# Altium footprint library ADP5070ACPZ.PcbLib: 3 footprints
Each footprint in its own frame and in the unit in brackets; x right, y up, seen from the top. Pads: shape width x height; smd on the part's side, far side on the other; paste and mask are expansions set on the pad; w line width, h text height; cw(c..) or ccw(c..) is an arc to the next point about the centre after c.
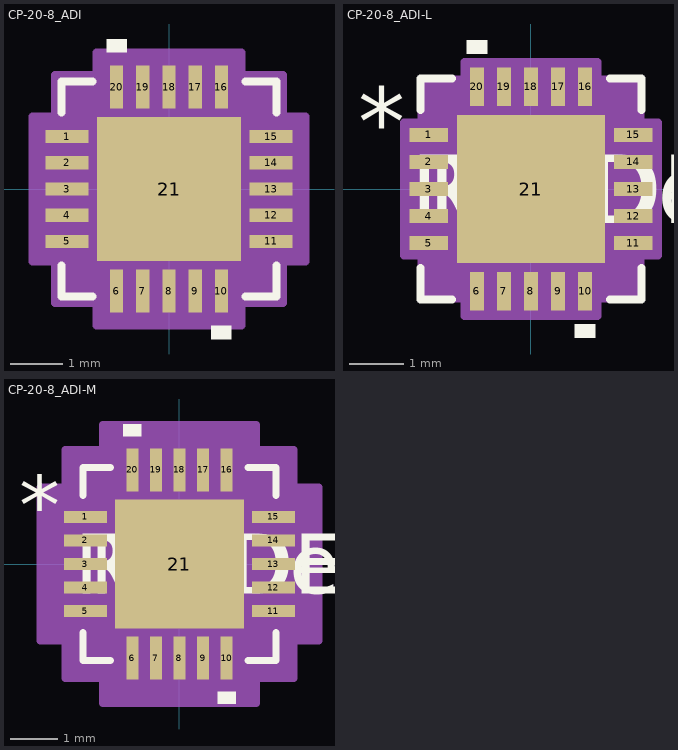
[diagram p0: the footprints below, top view; thin cyan lines are the x and y axes]

## CP-20-8_ADI [mil]
pads (21):
  rect 32x10 smd paste+0 mask+0: 1(-76.5,39.37) 2(-76.5,19.68) 3(-76.5,0) 4(-76.5,-19.68) 5(-76.5,-39.37) 11(76.5,-39.37) 12(76.5,-19.68) 13(76.5,0) 14(76.5,19.68) 15(76.5,39.37)
  rect 10x32 smd paste+0 mask+0: 6(-39.37,-76.5) 7(-19.68,-76.5) 8(0,-76.5) 9(19.68,-76.5) 10(39.37,-76.5) 16(39.37,76.5) 17(19.68,76.5) 18(0,76.5) 19(-19.68,76.5) 20(-39.37,76.5)
  rect 108x108 smd paste-54 mask+0: 21(0,0)
Top Overlay:
  region: -31.87,102.5 -46.87,102.5 -46.87,112.5 -31.87,112.5
  region: 46.87,-102.5 31.87,-102.5 31.87,-112.5 46.87,-112.5
  lines w6: -80.5,-57.47 -80.5,-80.5 -57.47,-80.5 ; -80.5,57.47 -80.5,80.5 -57.47,80.5 ; 57.47,-80.5 80.5,-80.5 80.5,-57.47 ; 57.47,80.5 80.5,80.5 80.5,57.47
Top Paste:
  region: 50.06,-3.94 3.94,-3.94 3.94,-50.06 50.06,-50.06
  region: 50.06,50.06 3.94,50.06 3.94,3.94 50.06,3.94
  region: -3.94,-3.94 -50.06,-3.94 -50.06,-50.06 -3.94,-50.06
  region: -3.94,50.06 -50.06,50.06 -50.06,3.94 -3.94,3.94
Mechanical 13:
  lines w1: -75.5,25.5 -25.5,75.5 ; -80.5,-45.37 -75.5,-45.37 -75.5,-33.37 -80.5,-33.37 -80.5,-45.37 ; -80.5,-25.68 -75.5,-25.68 -75.5,-13.69 -80.5,-13.69 -80.5,-25.68 ; -80.5,-6 -75.5,-6 -75.5,6 -80.5,6 -80.5,-6 ; -80.5,13.69 -75.5,13.69 -75.5,25.68 -80.5,25.68 -80.5,13.69 ; -80.5,33.37 -75.5,33.37 -75.5,45.37 -80.5,45.37 -80.5,33.37 ; -75.5,-75.5 -75.5,75.5 75.5,75.5 75.5,-75.5 -75.5,-75.5 ; -45.37,-80.5 -33.37,-80.5 -33.37,-75.5 -45.37,-75.5 -45.37,-80.5 ; -45.37,75.5 -45.37,80.5 -33.37,80.5 -33.37,75.5 -45.37,75.5 ; -25.68,-80.5 -13.69,-80.5 -13.69,-75.5 -25.68,-75.5 -25.68,-80.5 ; -25.68,75.5 -25.68,80.5 -13.69,80.5 -13.69,75.5 -25.68,75.5 ; -6,-80.5 6,-80.5 6,-75.5 -6,-75.5 -6,-80.5 ; -6,75.5 -6,80.5 6,80.5 6,75.5 -6,75.5 ; 13.69,-80.5 25.68,-80.5 25.68,-75.5 13.69,-75.5 13.69,-80.5 ; 13.69,75.5 13.69,80.5 25.68,80.5 25.68,75.5 13.69,75.5 ; 33.37,-80.5 45.37,-80.5 45.37,-75.5 33.37,-75.5 33.37,-80.5 ; 33.37,75.5 33.37,80.5 45.37,80.5 45.37,75.5 33.37,75.5 ; 75.5,-45.37 80.5,-45.37 80.5,-33.37 75.5,-33.37 75.5,-45.37 ; 75.5,-25.68 80.5,-25.68 80.5,-13.69 75.5,-13.69 75.5,-25.68 ; 75.5,-6 80.5,-6 80.5,6 75.5,6 75.5,-6 ; 75.5,13.69 80.5,13.69 80.5,25.68 75.5,25.68 75.5,13.69 ; 75.5,33.37 80.5,33.37 80.5,45.37 75.5,45.37 75.5,33.37
  text "RefDes2" at -90,-15 h50
  text "*" at -73,24.21 h50
Mechanical 15:
  region: -54.37,-85.5 -85.5,-85.5 -85.5,-54.37 -102.5,-54.37 -102.5,54.37 -85.5,54.37 -85.5,85.5 -54.37,85.5 -54.37,102.5 54.37,102.5 54.37,85.5 85.5,85.5 85.5,54.37 102.5,54.37 102.5,-54.37 85.5,-54.37 85.5,-85.5 54.37,-85.5 54.37,-102.5 -54.37,-102.5
  lines w6: -102.5,-54.37 -102.5,54.37 -85.5,54.37 -85.5,85.5 -54.37,85.5 -54.37,102.5 54.37,102.5 54.37,85.5 85.5,85.5 85.5,54.37 102.5,54.37 102.5,-54.37 85.5,-54.37 85.5,-85.5 54.37,-85.5 54.37,-102.5 -54.37,-102.5 -54.37,-85.5 -85.5,-85.5 -85.5,-54.37 -102.5,-54.37
3D body "CP-20-8_ADI.step": height 32.09, standoff 0, extent -80.51,-80.51 80.51,80.51
3D body "CP-20-8_ADI.step": height 32.09, standoff 0, extent -80.51,-80.51 80.51,80.51

## CP-20-8_ADI-L [mil]
pads (21):
  rect 28x10 smd paste+0 mask+0: 1(-74.5,39.37) 2(-74.5,19.68) 3(-74.5,0) 4(-74.5,-19.68) 5(-74.5,-39.37) 11(74.5,-39.37) 12(74.5,-19.68) 13(74.5,0) 14(74.5,19.68) 15(74.5,39.37)
  rect 10x28 smd paste+0 mask+0: 6(-39.37,-74.5) 7(-19.68,-74.5) 8(0,-74.5) 9(19.68,-74.5) 10(39.37,-74.5) 16(39.37,74.5) 17(19.68,74.5) 18(0,74.5) 19(-19.68,74.5) 20(-39.37,74.5)
  rect 108x108 smd paste-54 mask+0: 21(0,0)
Top Overlay:
  region: 46.87,-98.5 31.87,-98.5 31.87,-108.5 46.87,-108.5
  region: -31.87,98.5 -46.87,98.5 -46.87,108.5 -31.87,108.5
  lines w6: -80.5,-57.47 -80.5,-80.5 -57.47,-80.5 ; -80.5,57.47 -80.5,80.5 -57.47,80.5 ; 57.47,-80.5 80.5,-80.5 80.5,-57.47 ; 57.47,80.5 80.5,80.5 80.5,57.47
  text "*" at -126,24.21 h50
  text "RefDes" at -75,-25 h50
  text "REFDES" at -87.5,-25 h50
Top Paste:
  region: -3.94,50.06 -50.06,50.06 -50.06,3.94 -3.94,3.94
  region: -3.94,-3.94 -50.06,-3.94 -50.06,-50.06 -3.94,-50.06
  region: 50.06,50.06 3.94,50.06 3.94,3.94 50.06,3.94
  region: 50.06,-3.94 3.94,-3.94 3.94,-50.06 50.06,-50.06
Mechanical 13:
  lines w1: -75.5,25.5 -25.5,75.5 ; -75.5,-75.5 75.5,-75.5 ; -75.5,-75.5 -75.5,75.5 ; -75.5,-75.5 -75.5,-75.5 ; -75.5,75.5 75.5,75.5 ; -75.5,75.5 -75.5,75.5 ; 75.5,-75.5 75.5,-75.5 ; 75.5,-75.5 75.5,75.5 ; 75.5,75.5 75.5,75.5 ; -80.5,-45.37 -80.5,-33.37 -75.5,-33.37 -75.5,-45.37 -80.5,-45.37 ; -80.5,-25.68 -80.5,-13.69 -75.5,-13.69 -75.5,-25.68 -80.5,-25.68 ; -80.5,-6 -80.5,6 -75.5,6 -75.5,-6 -80.5,-6 ; -80.5,13.69 -80.5,25.68 -75.5,25.68 -75.5,13.69 -80.5,13.69 ; -80.5,33.37 -80.5,45.37 -75.5,45.37 -75.5,33.37 -80.5,33.37 ; -45.37,-80.5 -45.37,-75.5 -33.37,-75.5 -33.37,-80.5 -45.37,-80.5 ; -45.37,75.5 -33.37,75.5 -33.37,80.5 -45.37,80.5 -45.37,75.5 ; -25.68,-80.5 -25.68,-75.5 -13.69,-75.5 -13.69,-80.5 -25.68,-80.5 ; -25.68,75.5 -13.69,75.5 -13.69,80.5 -25.68,80.5 -25.68,75.5 ; -6,-80.5 -6,-75.5 6,-75.5 6,-80.5 -6,-80.5 ; -6,75.5 6,75.5 6,80.5 -6,80.5 -6,75.5 ; 13.69,-80.5 13.69,-75.5 25.68,-75.5 25.68,-80.5 13.69,-80.5 ; 13.69,75.5 25.68,75.5 25.68,80.5 13.69,80.5 13.69,75.5 ; 33.37,-80.5 33.37,-75.5 45.37,-75.5 45.37,-80.5 33.37,-80.5 ; 33.37,75.5 45.37,75.5 45.37,80.5 33.37,80.5 33.37,75.5 ; 75.5,-45.37 75.5,-33.37 80.5,-33.37 80.5,-45.37 75.5,-45.37 ; 75.5,-25.68 75.5,-13.69 80.5,-13.69 80.5,-25.68 75.5,-25.68 ; 75.5,-6 75.5,6 80.5,6 80.5,-6 75.5,-6 ; 75.5,13.69 75.5,25.68 80.5,25.68 80.5,13.69 75.5,13.69 ; 75.5,33.37 75.5,45.37 80.5,45.37 80.5,33.37 75.5,33.37
  text "*" at -73,24.21 h50
  text "RefDes2" at -87.5,-25 h50
Mechanical 15:
  region: -48.37,-79.5 -79.5,-79.5 -79.5,-48.37 -92.5,-48.37 -92.5,48.37 -79.5,48.37 -79.5,79.5 -48.37,79.5 -48.37,92.5 48.37,92.5 48.37,79.5 79.5,79.5 79.5,48.37 92.5,48.37 92.5,-48.37 79.5,-48.37 79.5,-79.5 48.37,-79.5 48.37,-92.5 -48.37,-92.5
  lines w6: -92.5,-48.37 -79.5,-48.37 -79.5,-79.5 -48.37,-79.5 -48.37,-92.5 48.37,-92.5 48.37,-79.5 79.5,-79.5 79.5,-48.37 92.5,-48.37 92.5,48.37 79.5,48.37 79.5,79.5 48.37,79.5 48.37,92.5 -48.37,92.5 -48.37,79.5 -79.5,79.5 -79.5,48.37 -92.5,48.37 -92.5,-48.37
3D body "CP-20-8_ADI.step": height 32.09, standoff 0, extent -80.51,-80.51 80.51,80.51

## CP-20-8_ADI-M [mil]
pads (21):
  rect 36x10 smd paste+0 mask+0: 1(-78.5,39.37) 2(-78.5,19.68) 3(-78.5,0) 4(-78.5,-19.68) 5(-78.5,-39.37) 11(78.5,-39.37) 12(78.5,-19.68) 13(78.5,0) 14(78.5,19.68) 15(78.5,39.37)
  rect 10x36 smd paste+0 mask+0: 6(-39.37,-78.5) 7(-19.68,-78.5) 8(0,-78.5) 9(19.68,-78.5) 10(39.37,-78.5) 16(39.37,78.5) 17(19.68,78.5) 18(0,78.5) 19(-19.68,78.5) 20(-39.37,78.5)
  rect 108x108 smd paste-54 mask+0: 21(0,0)
Top Overlay:
  region: 46.87,-106.5 31.87,-106.5 31.87,-116.5 46.87,-116.5
  region: -31.87,106.5 -46.87,106.5 -46.87,116.5 -31.87,116.5
  lines w6: -80.5,-57.47 -80.5,-80.5 -57.47,-80.5 ; -80.5,57.47 -80.5,80.5 -57.47,80.5 ; 57.47,-80.5 80.5,-80.5 80.5,-57.47 ; 57.47,80.5 80.5,80.5 80.5,57.47
  text "*" at -134,24.21 h50
  text "RefDes" at -75,-25 h50
  text "REFDES" at -87.5,-25 h50
Top Paste:
  region: -3.94,50.06 -50.06,50.06 -50.06,3.94 -3.94,3.94
  region: -3.94,-3.94 -50.06,-3.94 -50.06,-50.06 -3.94,-50.06
  region: 50.06,50.06 3.94,50.06 3.94,3.94 50.06,3.94
  region: 50.06,-3.94 3.94,-3.94 3.94,-50.06 50.06,-50.06
Mechanical 13:
  lines w1: -75.5,25.5 -25.5,75.5 ; -75.5,-75.5 75.5,-75.5 ; -75.5,-75.5 -75.5,75.5 ; -75.5,-75.5 -75.5,-75.5 ; -75.5,75.5 75.5,75.5 ; -75.5,75.5 -75.5,75.5 ; 75.5,-75.5 75.5,-75.5 ; 75.5,-75.5 75.5,75.5 ; 75.5,75.5 75.5,75.5 ; -80.5,-45.37 -80.5,-33.37 -75.5,-33.37 -75.5,-45.37 -80.5,-45.37 ; -80.5,-25.68 -80.5,-13.69 -75.5,-13.69 -75.5,-25.68 -80.5,-25.68 ; -80.5,-6 -80.5,6 -75.5,6 -75.5,-6 -80.5,-6 ; -80.5,13.69 -80.5,25.68 -75.5,25.68 -75.5,13.69 -80.5,13.69 ; -80.5,33.37 -80.5,45.37 -75.5,45.37 -75.5,33.37 -80.5,33.37 ; -45.37,-80.5 -45.37,-75.5 -33.37,-75.5 -33.37,-80.5 -45.37,-80.5 ; -45.37,75.5 -33.37,75.5 -33.37,80.5 -45.37,80.5 -45.37,75.5 ; -25.68,-80.5 -25.68,-75.5 -13.69,-75.5 -13.69,-80.5 -25.68,-80.5 ; -25.68,75.5 -13.69,75.5 -13.69,80.5 -25.68,80.5 -25.68,75.5 ; -6,-80.5 -6,-75.5 6,-75.5 6,-80.5 -6,-80.5 ; -6,75.5 6,75.5 6,80.5 -6,80.5 -6,75.5 ; 13.69,-80.5 13.69,-75.5 25.68,-75.5 25.68,-80.5 13.69,-80.5 ; 13.69,75.5 25.68,75.5 25.68,80.5 13.69,80.5 13.69,75.5 ; 33.37,-80.5 33.37,-75.5 45.37,-75.5 45.37,-80.5 33.37,-80.5 ; 33.37,75.5 45.37,75.5 45.37,80.5 33.37,80.5 33.37,75.5 ; 75.5,-45.37 75.5,-33.37 80.5,-33.37 80.5,-45.37 75.5,-45.37 ; 75.5,-25.68 75.5,-13.69 80.5,-13.69 80.5,-25.68 75.5,-25.68 ; 75.5,-6 75.5,6 80.5,6 80.5,-6 75.5,-6 ; 75.5,13.69 75.5,25.68 80.5,25.68 80.5,13.69 75.5,13.69 ; 75.5,33.37 75.5,45.37 80.5,45.37 80.5,33.37 75.5,33.37
  text "*" at -73,24.21 h50
  text "RefDes2" at -87.5,-25 h50
Mechanical 15:
  region: -64.37,-95.5 -95.5,-95.5 -95.5,-64.37 -116.5,-64.37 -116.5,64.37 -95.5,64.37 -95.5,95.5 -64.37,95.5 -64.37,116.5 64.37,116.5 64.37,95.5 95.5,95.5 95.5,64.37 116.5,64.37 116.5,-64.37 95.5,-64.37 95.5,-95.5 64.37,-95.5 64.37,-116.5 -64.37,-116.5
  lines w6: -116.5,-64.37 -95.5,-64.37 -95.5,-95.5 -64.37,-95.5 -64.37,-116.5 64.37,-116.5 64.37,-95.5 95.5,-95.5 95.5,-64.37 116.5,-64.37 116.5,64.37 95.5,64.37 95.5,95.5 64.37,95.5 64.37,116.5 -64.37,116.5 -64.37,95.5 -95.5,95.5 -95.5,64.37 -116.5,64.37 -116.5,-64.37
3D body "CP-20-8_ADI.step": height 32.09, standoff 0, extent -80.51,-80.51 80.51,80.51